# Altium schematic symbol library SCH - MCU - ATTINY - MICROCHIP ATTINY40-SU SOIC20.SchLib: 1 symbol
Pins are listed as number, name and electrical type; pins without a type are passive.

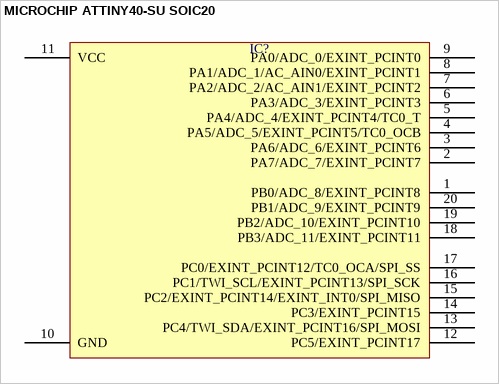
[diagram p0: symbol MICROCHIP ATTINY40-SU SOIC20]

## MICROCHIP ATTINY40-SU SOIC20
designator IC?  (value not drawn)
pins: 1 PB0/ADC_8/EXINT_PCINT8, 2 PA7/ADC_7/EXINT_PCINT7, 3 PA6/ADC_6/EXINT_PCINT6, 4 PA5/ADC_5/EXINT_PCINT5/TC0_OCB, 5 PA4/ADC_4/EXINT_PCINT4/TC0_T, 6 PA3/ADC_3/EXINT_PCINT3, 7 PA2/ADC_2/AC_AIN1/EXINT_PCINT2, 8 PA1/ADC_1/AC_AIN0/EXINT_PCINT1, 9 PA0/ADC_0/EXINT_PCINT0, 10 GND, 11 VCC, 12 PC5/EXINT_PCINT17, 13 PC4/TWI_SDA/EXINT_PCINT16/SPI_MOSI, 14 PC3/EXINT_PCINT15, 15 PC2/EXINT_PCINT14/EXINT_INT0/SPI_MISO, 16 PC1/TWI_SCL/EXINT_PCINT13/SPI_SCK, 17 PC0/EXINT_PCINT12/TC0_OCA/SPI_SS, 18 PB3/ADC_11/EXINT_PCINT11, 19 PB2/ADC_10/EXINT_PCINT10, 20 PB1/ADC_9/EXINT_PCINT9